# Altium footprint library fuse.PCBLIB: 27 footprints (part 1 of 2)
Each footprint in its own frame and in the unit in brackets; x right, y up, seen from the top. Pads: shape width x height; smd on the part's side, far side on the other; paste and mask are expansions set on the pad; w line width, h text height; cw(c..) or ccw(c..) is an arc to the next point about the centre after c.
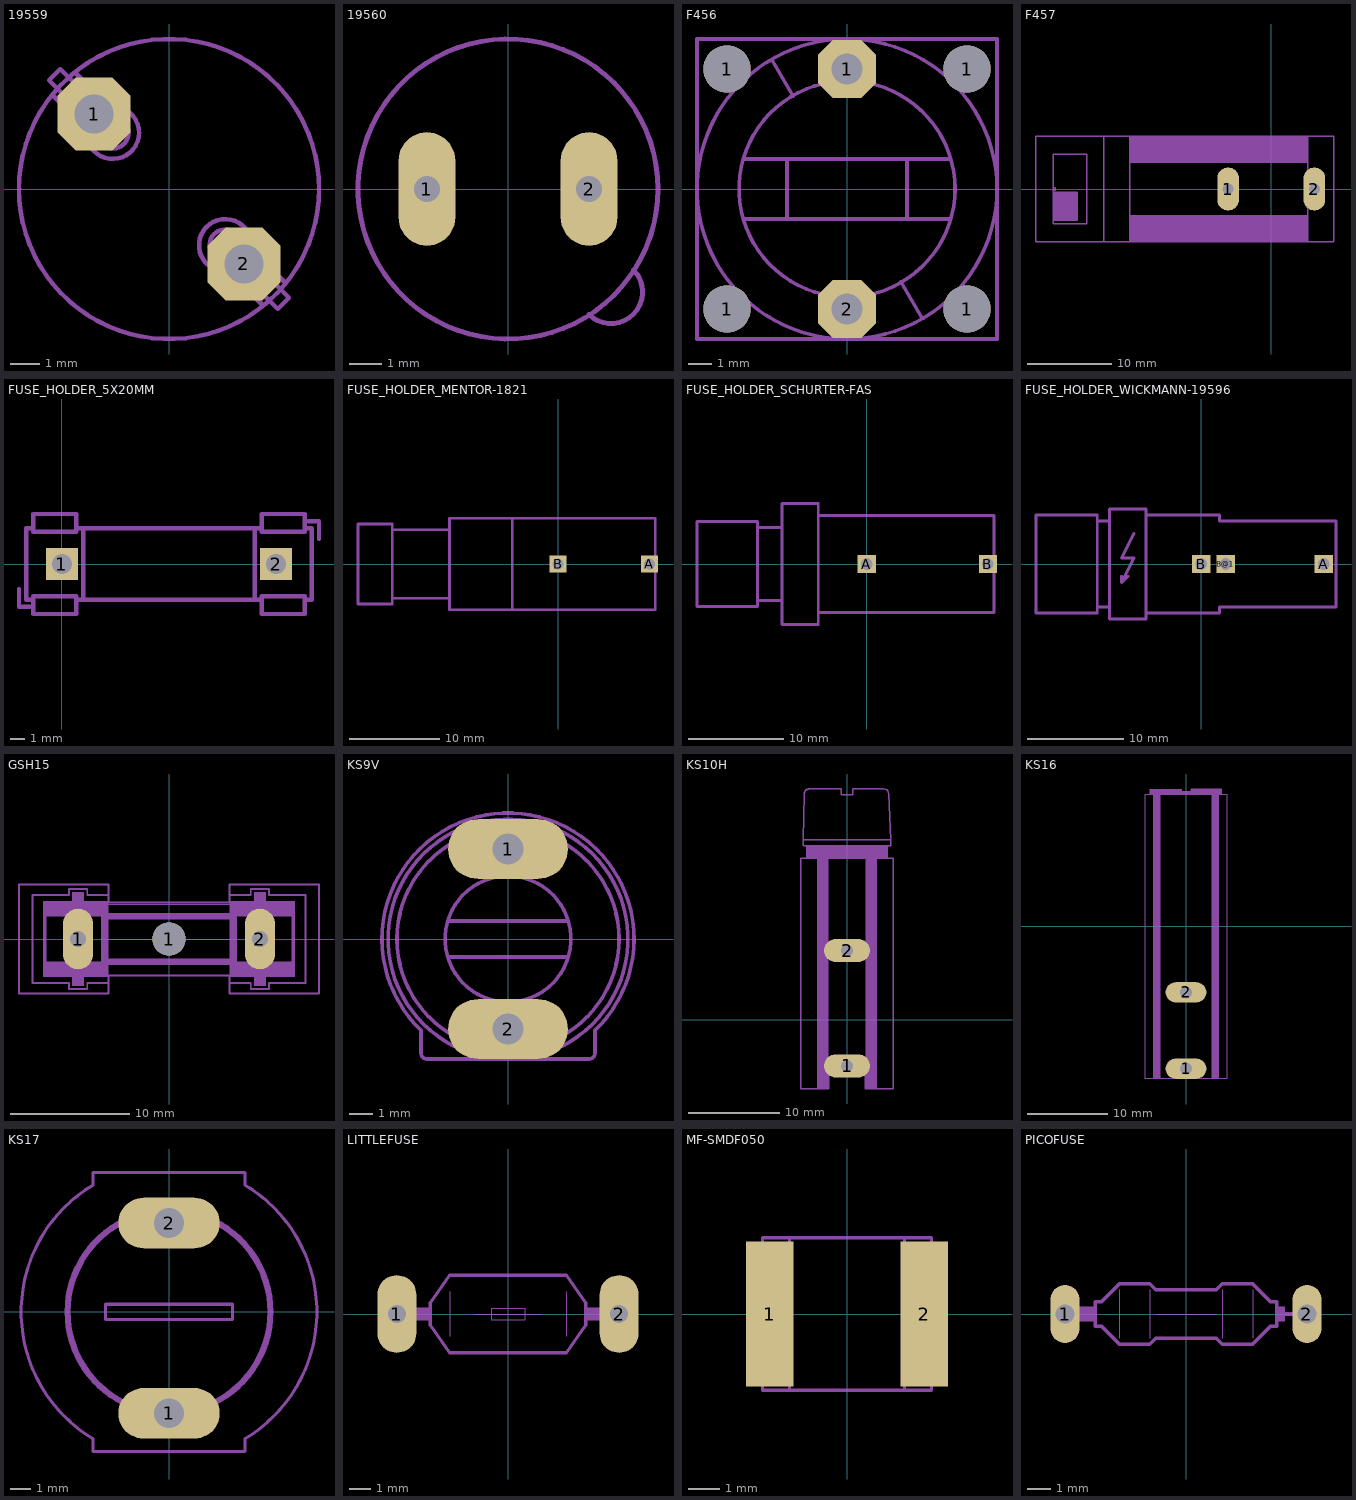
[diagram p0: the footprints below, top view; thin cyan lines are the x and y axes]

## 19559 [mil]
pads (2):
  oct 96.82x96.82 hole 52: 1(-100,100) 2(100,-100)
Mechanical 2:
  circle w6: c0,0 r200
  lines w6: -145,130 -160,145 -145,160 -130,145 ; 130,-145 145,-160 160,-145 145,-130
Mechanical 18:
  circle w6: c75,-75 r35
  circle w6: c-75,75 r35
  circle w6: c-75,75 r21
  circle w6: c75,-75 r21
  lines w6: -155,125 -125,95 -95,125 -125,155 ; -145,130 -125,110 -110,125 -130,145 ; -95,80 -70,55 ; -80,95 -55,70 ; 55,-70 80,-95 ; 70,-55 95,-80 ; 125,-155 95,-125 125,-95 155,-125 ; 130,-145 110,-125 125,-110 145,-130

## 19560 [mil]
pads (2):
  oval 70x140 hole 32: 1(-100,0) 2(100,0)
Mechanical 2:
  circle w6: c0,0 r185
  lines w6: 100,-155 ccw(c127,-127) 155,-100
Mechanical 18:
  circle w6: c100,0 r30
  circle w10: c100,0 r10
  circle w10: c-100,0 r10
  circle w6: c-100,0 r30

## F456 [mil]
pads (6):
  round 79 hole 79: 1(-200,-200) 1(-200,200) 1(200,-200) 1(200,200)
  oct 96.82x96.82 hole 52: 1(0,200) 2(0,-200)
Mechanical 2:
  lines w6: -35,-250 -250,-250 -250,250 -35,250 ; 35,-250 250,-250 250,250 35,250
Mechanical 18:
  circle w6: c0,0 r250
  circle w6: c0,0 r180
  lines w6: -170,-50 -100,-50 ; -170,50 -100,50 ; -125,215 -90,155 ; -35,-250 0,-250 ; -35,250 35,250 ; 0,-180 0,-250 ; 0,180 0,250 ; 35,-250 0,-250 ; 90,-155 125,-215 ; 170,-50 100,-50 ; 170,50 100,50 ; -100,-50 -100,50 ; -100,-50 100,-50 ; -100,50 100,50 ; 100,-50 100,50

## F457 [mil]
pads (2):
  oval 100x200 hole 52: 1(-200,0) 2(200,0)
Mechanical 2:
  rectangle: -1010,-145 -900,-15
  rectangle: -655,125 170,245
  rectangle: -655,-245 170,-125
  lines w6: -655,-125 170,-125 ; 170,-50 170,-125 ; 170,50 170,125 ; -1010,-145 -1010,-160 -855,-160 -855,160 -1010,160 -1010,5 ; -1010,-145 -900,-145 -900,-15 -1010,-15 ; -1010,-145 -1010,-15 ; -1010,-15 -1010,-5 ; -1010,-5 -1010,5 ; -1010,-5 -1000,-5 -1000,5 -1010,5 ; -775,-245 -1090,-245 -1090,245 -775,245 ; -775,-245 -775,245 ; -775,-245 -655,-245 ; -775,245 -655,245 ; -655,-245 170,-245 ; -655,-245 -655,125 ; -655,125 170,125 ; -655,125 -655,245 ; -655,245 170,245 ; 170,-245 290,-245 290,245 170,245 ; 170,-245 170,-125 ; 170,125 170,245
Mechanical 18:
  lines w6: 170,-50 170,50

## FUSE_HOLDER_5X20MM [mil]
pads (2):
  rect 90x90 hole 56: 1(0,0) 2(600,0)
Mechanical 2:
  lines w12: -120,-70 -120,-120 -90,-120 ; 690,120 720,120 720,70 ; -80,-100 -80,-140 40,-140 40,-100 ; -80,-100 -80,-90 40,-90 40,-100 ; -80,-100 -100,-100 -100,100 -80,100 ; -80,100 -80,90 40,90 40,100 ; -80,100 -80,140 40,140 40,100 ; 40,-100 60,-100 ; 40,100 60,100 ; 60,-100 60,100 ; 60,-100 540,-100 ; 60,100 540,100 ; 540,-100 540,100 ; 540,-100 560,-100 ; 540,100 560,100 ; 560,-100 560,-140 680,-140 680,-100 ; 560,-100 560,-90 680,-90 680,-100 ; 560,100 560,90 680,90 680,100 ; 560,100 560,140 680,140 680,100 ; 680,-100 700,-100 700,100 680,100

## FUSE_HOLDER_MENTOR-1821 [mil]
pads (2):
  rect 75x75 hole 48: A(400,0) B(0,0)
Mechanical 2:
  lines w12: -725,-150 -725,-175 -875,-175 -875,175 -725,175 -725,150 ; -725,-150 -475,-150 ; -725,-150 -725,150 ; -725,150 -475,150 ; -475,-150 -475,-200 -200,-200 ; -475,-150 -475,150 ; -475,150 -475,200 -200,200 ; -200,-200 425,-200 425,200 -200,200 ; -200,-200 -200,200

## FUSE_HOLDER_SCHURTER-FAS [mil]
pads (2):
  rect 75x75 hole 48: A(0,0) B(500,0)
Mechanical 2:
  lines w12: -450,-150 -450,150 ; -450,-150 -350,-150 ; -450,-150 -450,-175 -700,-175 -700,175 -450,175 -450,150 ; -450,150 -350,150 ; -350,-150 -350,-250 -200,-250 -200,-200 ; -350,-150 -350,150 ; -350,150 -350,250 -200,250 -200,200 ; -200,-200 -200,200 ; -200,-200 525,-200 525,200 -200,200

## FUSE_HOLDER_WICKMANN-19596 [mil]
pads (3):
  rect 75x75 hole 48: A(500,0) B(0,0) B@1(100,0)
Mechanical 2:
  lines w12: -325,-50 -325,-75 ; -300,-50 -325,-75 ; -275,125 -325,25 -275,25 -325,-75 ; -425,-175 -425,175 ; -425,-175 -375,-175 ; -425,-175 -425,-200 -675,-200 -675,200 -425,200 -425,175 ; -425,175 -375,175 ; -375,-175 -375,-225 -225,-225 -225,-200 ; -375,-175 -375,175 ; -375,175 -375,225 -225,225 -225,200 ; -225,-200 -225,200 ; -225,-200 75,-200 75,-175 550,-175 550,175 75,175 75,200 -225,200

## GSH15 [mil]
pads (3):
  oval 100x200 hole 52: 1(-300,0) 2(300,0)
  round 110 hole 110: 1(0,0)
Mechanical 2:
  rectangle: -200,65 200,85
  rectangle: -200,-85 200,-65
  rectangle: 200,-125 225,-60
  rectangle: 200,60 225,125
  rectangle: 405,-80 415,80
  rectangle: 225,80 415,125
  rectangle: 225,-125 415,-80
  rectangle: 280,-155 320,-125
  rectangle: 280,125 320,155
  rectangle: -225,60 -200,125
  rectangle: -225,-125 -200,-60
  rectangle: -415,-125 -225,-80
  rectangle: -415,-80 -405,80
  rectangle: -415,80 -225,125
  rectangle: -320,125 -280,155
  rectangle: -320,-155 -280,-125
  rectangle: 225,-80 265,-75
  rectangle: 225,75 265,80
  rectangle: 335,75 405,80
  rectangle: 335,-80 405,-75
  rectangle: -405,75 -335,80
  rectangle: -265,75 -225,80
  rectangle: -265,-80 -225,-75
  rectangle: -405,-80 -335,-75
  lines w2: -205,0 205,0 ; -200,115 200,115
  lines w6: -200,-145 -200,-180 -495,-180 -495,180 -200,180 -200,145 ; -200,-145 -200,-120 200,-120 200,-145 ; -200,-145 -270,-145 -270,-165 -330,-165 -330,-145 -450,-145 -450,145 -330,145 -330,165 -270,165 -270,145 -200,145 ; -200,145 -200,120 200,120 200,145 ; 200,-145 270,-145 270,-165 330,-165 330,-145 450,-145 450,145 330,145 330,165 270,165 270,145 200,145 ; 200,-145 200,-180 495,-180 495,180 200,180 200,145
Mechanical 18:
  rectangle: 200,-60 225,60
  rectangle: 265,75 335,80
  rectangle: 265,-80 335,-75
  rectangle: -225,-60 -200,60
  rectangle: -335,-80 -265,-75
  rectangle: -335,75 -265,80

## KS9V [mil]
pads (2):
  oval 200x100 hole 52: 1(0,150) 2(0,-150)
Mechanical 2:
  lines w6: -100.63,-30 100.63,-30 ; -100.63,30 100.63,30 ; -72.17,-170.42 cw(c0,0) -72.17,170.42 ; -63.7,-189.58 cw(c0,0) -63.7,189.58 ; -55.91,-200 -135,-200 cw(c-135,-190) -145,-190 -145,-152.01 cw(c0,-0.02) -52.73,203.32 ; -48.74,-93 cw(c0,0) -48.74,93 ; 48.74,-93 ccw(c0,0) 48.74,93 ; 52.73,203.32 cw(c0,-0.02) 145,-152.01 145,-190 cw(c135,-190) 135,-200 55.91,-200 ; 63.7,-189.58 ccw(c0,0) 63.7,189.58 ; 72.17,-170.42 ccw(c0,0) 72.17,170.42
Mechanical 18:
  lines w6: -72.17,-170.42 ccw(c0,0) 72.17,-170.42 ; -72.17,170.42 cw(c0,0) 72.17,170.42 ; -63.7,-189.58 ccw(c0,-0.01) 63.7,-189.58 ; -63.7,189.58 cw(c0,0.01) 63.7,189.58 ; -55.91,-200 55.91,-200 ; -52.73,203.33 cw(c0,0) 52.73,203.33 ; -48.74,-93 ccw(c0,-0.01) 48.74,-93 ; -48.74,93 cw(c0,0.01) 48.74,93

## KS10H [mil]
pads (2):
  oval 200x100 hole 52: 1(0,-200) 2(0,300)
Mechanical 2:
  rectangle: 80,-300 130,700
  rectangle: -130,-300 -80,700
  rectangle: -175,700 175,755
  lines w6: -175,755 -175,700 ; -80,-240 -80,-300 -200,-300 -200,700 -175,700 ; 80,-240 80,-300 200,-300 200,700 175,700 ; 175,755 175,700 ; -190,780 190,780 ; -190,780 -190,755 190,755 190,780 ; -190,780 -185,980 cw(c-165,980) -165,1000 -25,1000 -25,975 25,975 25,1000 160,1000 cw(c160,980) 180,980 190,780 ; -175,700 175,700
Mechanical 18:
  lines w6: -80,-240 -80,-200 80,-200 80,-240 ; -55,-205 55,-205

## KS16 [mil]
pads (2):
  oval 200x100 hole 59: 1(0,-700) 2(0,-325)
Mechanical 2:
  rectangle: -175,650 -25,675
  rectangle: -25,650 25,663
  rectangle: 25,650 175,675
  rectangle: 125,-750 163,650
  rectangle: -163,-750 -125,650
  lines w6: -65,-750 -200,-750 -200,650 -175,650 ; 65,-750 200,-750 200,650 175,650 ; -175,650 -175,675 -24,675 -24,663 25,663 25,675 175,675 175,650 ; -175,650 175,650
Mechanical 18:
  lines w6: -65,-750 65,-750

## KS17 [mil]
pads (2):
  oval 200x100 hole 59: 1(0,-200) 2(0,175)
Mechanical 2:
  lines w6: -40,-275 -150,-275 -150,-250 cw(c0,0) -150,250 -150,275 150,275 150,250 cw(c0,0) 150,-250 150,-275 40,-275 ; -125,-15 -125,15 125,15 125,-15 -125,-15
  lines w12: -89.44,-178.89 cw(c0,0) -200,0 cw(c0,0) -87.49,179.85 ; 87.49,-179.85 ccw(c0,0) 200,0 ccw(c0,0) 89.44,178.89
Mechanical 18:
  lines w6: -40,-275 40,-275
  lines w12: -89.44,-178.89 ccw(c-0.01,0) 0,-200 ccw(c0.01,0) 89.44,-178.89 ; -89.44,178.89 cw(c-0.01,0) 0,200 cw(c0.01,0) 89.44,178.89

## LITTLEFUSE [mil]
pads (2):
  oval 70x140 hole 32: 1(-200,0) 2(200,0)
Mechanical 2:
  rectangle: 140,-12 154,12
  rectangle: -154,-12 -140,12
  lines w2: -105,-40 -105,40 ; -60,0 60,0 ; 105,-40 105,40 ; -30,-10 -30,10 30,10 30,-10 -30,-10
  lines w6: -140,-20 -140,20 -105,70 105,70 140,20 140,-20 105,-70 -105,-70 -140,-20
Mechanical 18:
  lines w24: -200,0 -155,0 ; 155,0 200,0

## MF-SMDF050 [mil]
pads (2):
  rect 59.06x181.1 smd: 1(-96.46,0) 2(96.46,0)
Mechanical 18:
  lines w4: -71.85,-94.98 71.85,-94.98 ; -71.85,-94.98 -105.32,-94.98 -105.32,-31.5 -104.82,-31.5 ccw(c-120.62,-0.25) -104.82,31 -105.32,31 -105.32,94.98 -71.85,94.98 ; -71.85,-94.98 -71.85,94.98 ; -71.85,94.98 71.85,94.98 ; 71.85,-94.98 105.32,-94.98 105.32,-31 cw(c121.12,0.25) 105.32,31.5 105.32,94.98 71.85,94.98 ; 71.85,-94.98 71.85,94.98

## PICOFUSE [mil]
pads (2):
  oval 48x96 hole 32: 1(-200,0) 2(200,0)
Mechanical 2:
  rectangle: 150,-12 164,12
  rectangle: -164,-12 -150,12
  lines w2: -110,-40 -110,40 ; -60,-40 -60,40 ; -50,0 50,0 ; 60,-40 60,40 ; 110,-40 110,40
  lines w6: -150,-20 -150,20 -140,20 -110,50 -60,50 -50,40 50,40 60,50 110,50 140,20 150,20 150,-20 140,-20 110,-50 60,-50 50,-40 -50,-40 -60,-50 -110,-50 -140,-20 -150,-20
Mechanical 18:
  lines w6: 160,0 200,0
  lines w24: -200,0 -160,0